# Altium schematic symbol library BH-10.SchLib: 1 symbol
Pins are listed as number, name and electrical type; pins without a type are passive.

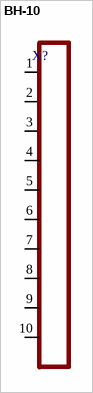
[diagram p0: symbol BH-10]

## BH-10
designator X?
footprint BH-10
footprint PBD-10
pins: 1, 2, 3, 4, 5, 6, 7, 8, 9, 10